# Altium footprint library 元器件.PCBLIB: 210 footprints (part 3 of 14)
Each footprint in its own frame and in the unit in brackets; x right, y up, seen from the top. Pads: shape width x height; smd on the part's side, far side on the other; paste and mask are expansions set on the pad; w line width, h text height; cw(c..) or ccw(c..) is an arc to the next point about the centre after c.
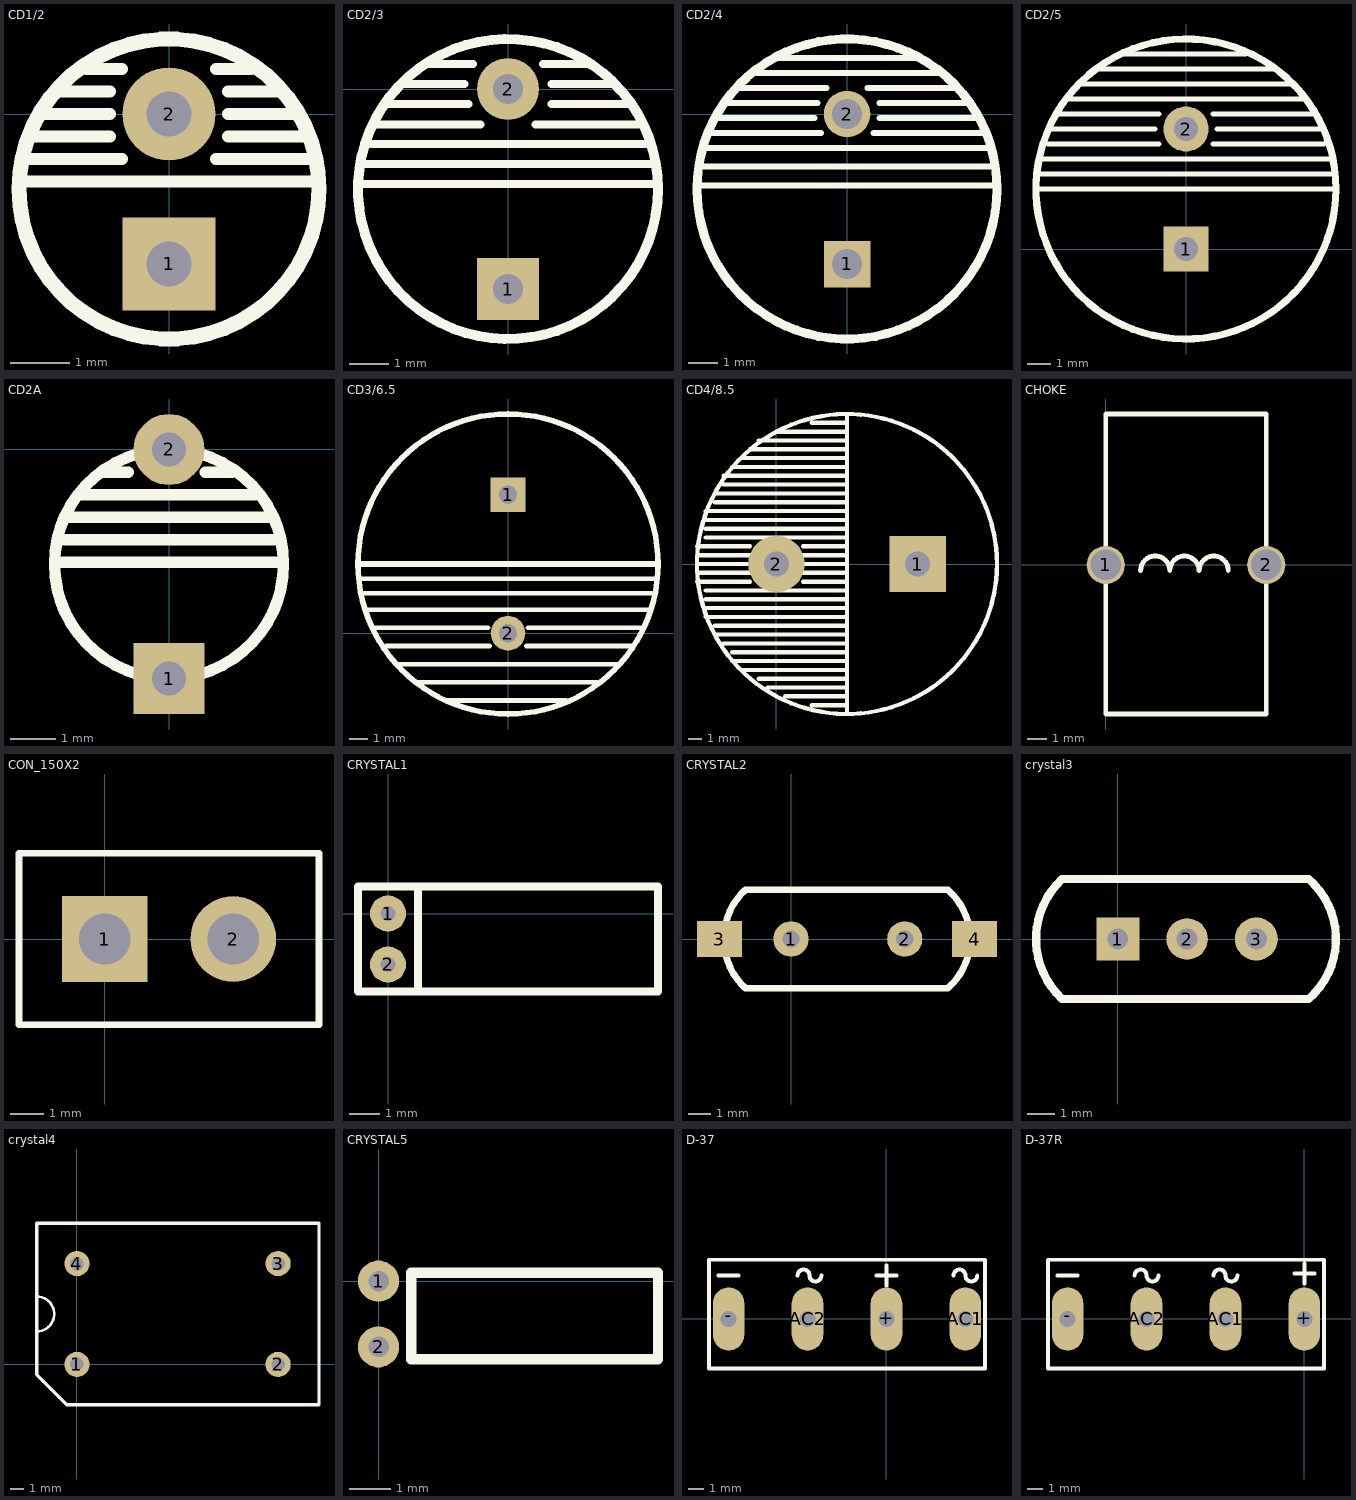
[diagram p2: the footprints below, top view; thin cyan lines are the x and y axes]

## CD1/2 [mil]
pads (2):
  rect 62x62 hole 30: 1(0,-100)
  round 62 hole 30: 2(0,0)
TopOverlay:
  circle w10: c0,-50 r100
  lines w8: -100,-45 95,-45 ; -95,-30 -31.5,-30 ; -90,-15 -39.37,-15 ; -85,0 -39.37,0 ; -75,15 -39.37,15 ; -55,30 -31.5,30 ; 31.5,-30 95,-30 ; 31.5,30 55,30 ; 39.37,-15 90,-15 ; 39.37,0 85,0 ; 39.37,15 75,15

## CD2/3 [mil]
pads (2):
  rect 62x62 hole 30: 1(0,-200)
  round 62 hole 30: 2(0,0)
TopOverlay:
  circle w10: c0,-100 r150
  lines w8: -150,-95 145,-95 ; -145,-75 145,-75 ; -140,-55 140,-55 ; -133.86,-35.43 -27.56,-35.43 ; -120,-15 -39.37,-15 ; -105,5 -43.31,5 ; -80,25 -35,25 ; 27.56,-35.43 133.86,-35.43 ; 35,25 80,25 ; 43.31,-15 120,-15 ; 43.31,5 105,5

## CD2/4 [mil]
pads (2):
  rect 62x62 hole 40: 1(0,-200)
  round 62 hole 40: 2(0,0)
TopOverlay:
  circle w12: c0,-100 r200
  lines w8: -200,-95 195,-95 ; -195,-70 195,-70 ; -190,-45 190,-45 ; -180,-25 -35,-25 ; -175,-5 -43.31,-5 ; -160,15 -39.37,15 ; -145,35 -27.56,35 ; -120,55 125,55 ; -95,75 95,75 ; 27.56,35 145,35 ; 35,-25 180,-25 ; 43.31,-5 175,-5 ; 43.31,15 160,15

## CD2/5 [mil]
pads (2):
  rect 75x75 hole 40: 1(0,0)
  round 75 hole 40: 2(0,200)
TopOverlay:
  circle w12: c0,100 r250
  lines w8: -250,100 250,100 ; -245,125 245,125 ; -245,150 240,150 ; -230,175 -45,175 ; -225,200 -51.18,200 ; -215,225 -45,225 ; -200,250 195,250 ; -175,275 175,275 ; -145,300 145,300 ; -110,325 100,325 ; 45,175 230,175 ; 45,225 215,225 ; 51.18,200 225,200

## CD2A [mil]
pads (2):
  rect 62x62 hole 30: 1(0,-200)
  round 62 hole 30: 2(0,0)
TopOverlay:
  circle w10: c0,-100 r100
  rectangle: -25,-10 25,0
  lines w10: -98.43,-98.43 98.43,-98.43 ; -94.49,-78.74 94.49,-78.74 ; -86.61,-59.06 90.55,-59.06 ; -78.74,-39.37 74.8,-39.37 ; -59.06,-19.68 -35.43,-19.68 ; 31.5,-19.68 55.12,-19.68

## CD3/6.5 [mil]
pads (2):
  rect 75x75 hole 40: 1(0,300)
  round 75 hole 40: 2(0,0)
TopOverlay:
  circle w12: c0,150 r325
  lines w10: -322.83,118.11 322.83,118.11 ; -314.96,86.61 314.96,86.61 ; -311.02,51.18 307.09,51.18 ; -295.28,11.81 -43.31,11.81 ; -263.78,-27.56 -39.37,-27.56 ; -240.16,-66.93 240.16,-66.93 ; -196.85,-106.3 192.91,-106.3 ; -129.92,-145.67 125.98,-145.67 ; 39.37,-27.56 267.72,-27.56 ; 43.31,11.81 291.34,11.81
  lines w12: -325,150 325,150

## CD4/8.5 [mil]
pads (2):
  rect 160x160 hole 70: 1(400,0)
  round 160 hole 70: 2(0,0)
TopOverlay:
  circle w12: c200,0 r425
  lines w12: -225,-50 -75,-50 ; -225,-25 -75,-25 ; -225,0 -75,0 ; -225,25 -75,25 ; -225,50 -75,50 ; -200,-150 200,-150 ; -200,-125 200,-125 ; -200,-100 200,-100 ; -200,-75 200,-75 ; -200,75 200,75 ; -200,100 200,100 ; -200,125 200,125 ; -200,150 200,150 ; -175,-200 200,-200 ; -175,-175 200,-175 ; -175,175 200,175 ; -175,200 200,200 ; -150,-225 200,-225 ; -150,225 200,225 ; -150,250 200,250 ; -125,-275 200,-275 ; -125,-250 200,-250 ; -125,275 200,275 ; -100,-300 200,-300 ; -100,300 200,300 ; -75,325 200,325 ; -50,-325 200,-325 ; -50,350 200,350 ; -25,-350 200,-350 ; 0,375 200,375 ; 25,-375 200,-375 ; 75,-50 200,-50 ; 75,-25 200,-25 ; 75,0 200,0 ; 75,25 200,25 ; 75,50 200,50 ; 100,-400 200,-400 ; 100,400 200,400 ; 200,-425 200,425

## CHOKE [mm]
pads (2):
  round 2 hole 1.6: 1(0,0) 2(8.4,0)
TopOverlay:
  lines w0.254: 1.826,-0.29 cw(c2.588,-0.29) 3.35,-0.29 ; 3.353,-0.292 cw(c4.115,-0.292) 4.877,-0.292 ; 4.889,-0.292 cw(c5.651,-0.292) 6.413,-0.292 ; 0,-7.8 0,0 0,7.9 8.4,7.9 8.4,-7.8 0,-7.8

## CON_150X2 [mil]
pads (2):
  rect 100x100 hole 60: 1(0,0)
  round 100 hole 60: 2(150,0)
TopOverlay:
  lines w7.87: -100,-100 -100,100 250,100 250,-100 -100,-100

## CRYSTAL1 [mm]
pads (2):
  round 1.2 hole 0.5: 1(0,0) 2(0,-1.7)
TopOverlay:
  lines w0.254: 1,-2.6 1,0.9 ; -1,-2.6 -1,0.9 9,0.9 9,-2.6 -1,-2.6

## CRYSTAL2 [mil]
pads (4):
  round 62 hole 30: 1(0,0) 2(200,0)
  rect 78.74x62.99 smd: 3(-125.98,0) 4(322.83,0)
TopOverlay:
  lines w12: -80.52,-86.41 cw(c0,0) -80.52,86.41 275.59,86.61 cw(c200,0) 275.59,-86.61 -80.52,-86.41

## crystal3 [mil]
pads (3):
  rect 62x62 hole 30: 1(0,0)
  round 60 hole 30: 2(100,0)
  round 62 hole 30: 3(200,0)
TopOverlay:
  lines w12: -80.52,-86.41 cw(c0,0) -80.52,86.41 275.59,86.61 cw(c200,0) 275.59,-86.61 -80.52,-86.41

## crystal4 [mil]
pads (4):
  round 75 hole 40: 1(0,0) 2(598.42,0) 3(598.42,300) 4(0,300)
TopOverlay:
  lines w7.87: -120,97.66 ccw(c-120,150) -120,202.34
  lines w9.84: -120,-30 -30,-120 720,-120 720,420 -120,420 -120,-30

## CRYSTAL5 [mm]
pads (2):
  round 1 hole 0.5: 1(0,0) 2(0,-1.6)
TopOverlay:
  lines w0.254: 0.8,-1.9 0.8,0.2 6.8,0.2 6.8,-1.9 0.8,-1.9

## D-37 [mil]
pads (4):
  oval 80x160 hole 40: +(0,0) -(-400,0) AC1(200,0) AC2(-200,0)
TopOverlay:
  lines w10: -425,110 -375,110 ; -225,110 cw(c-210,110) -195,110 ccw(c-180,110) -165,110 ; -25,110 25,110 ; 0,85 0,135 ; 170,110 cw(c185,110) 200,110 ccw(c215,110) 230,110 ; -450,-125 -450,150 250,150 250,-125 -450,-125

## D-37R [mil]
pads (4):
  oval 80x160 hole 40: +(0,0) -(-600,0) AC1(-200,0) AC2(-400,0)
TopOverlay:
  lines w10: -625,110 -575,110 ; -430,110 cw(c-415,110) -400,110 ccw(c-385,110) -370,110 ; -230,110 cw(c-215,110) -200,110 ccw(c-185,110) -170,110 ; -25,115 25,115 ; 0,90 0,140 ; -650,-125 -650,150 50,150 50,-125 -650,-125